# EAGLE library part DISPLAY-OLED-128X64 (library diy-modules)
128x64 Dot Matrix OLED Module Click here to find device on ebay.com <http://www.ebay.com/sch/oled+display+128x64> Note: There are two variants: I2C and SPI. Search for the proper version.
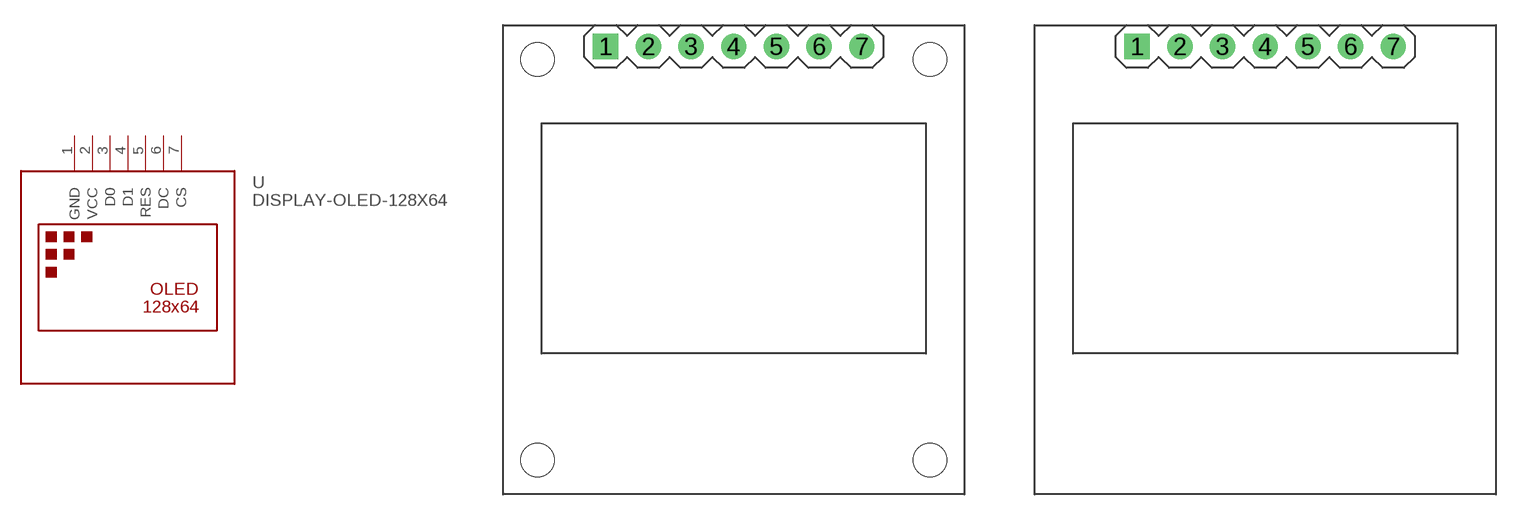
[diagram p45: symbol with the pads of DISPLAY-OLED-128X64; footprints DISPLAY-OLED-128X64, DISPLAY-OLED-128X64-NO-HOLES]

Designator prefix -

## DISPLAY-OLED-128X64  [DISPLAY-OLED-128X64]
1  GND  pwr
2  VCC  pwr
3  D0
4  D1
5  RES
6  DC
7  CS

## DISPLAY-OLED-128X64NO-HOLES  [DISPLAY-OLED-128X64-NO-HOLES]
Pads as for DISPLAY-OLED-128X64

## Footprint DISPLAY-OLED-128X64 (pad centres in mm)
drill 1 square: 1 -7.62,12.7
drill 1: 2 -5.08,12.7; 3 -2.54,12.7; 4 0,12.7; 5 2.54,12.7; 6 5.08,12.7; 7 7.62,12.7
hole 2 at -11.684,11.938
hole 2 at 11.684,11.938
hole 2 at 11.684,-11.938
hole 2 at -11.684,-11.938

## Footprint DISPLAY-OLED-128X64-NO-HOLES (pad centres in mm)
drill 1 square: 1 -7.62,11.43
drill 1: 2 -5.08,11.43; 3 -2.54,11.43; 4 0,11.43; 5 2.54,11.43; 6 5.08,11.43; 7 7.62,11.43